# Altium schematic symbol library MuhammetLib.SchLib: 392 symbols (part 1 of 4)
Pins are listed as number, name and electrical type; pins without a type are passive.

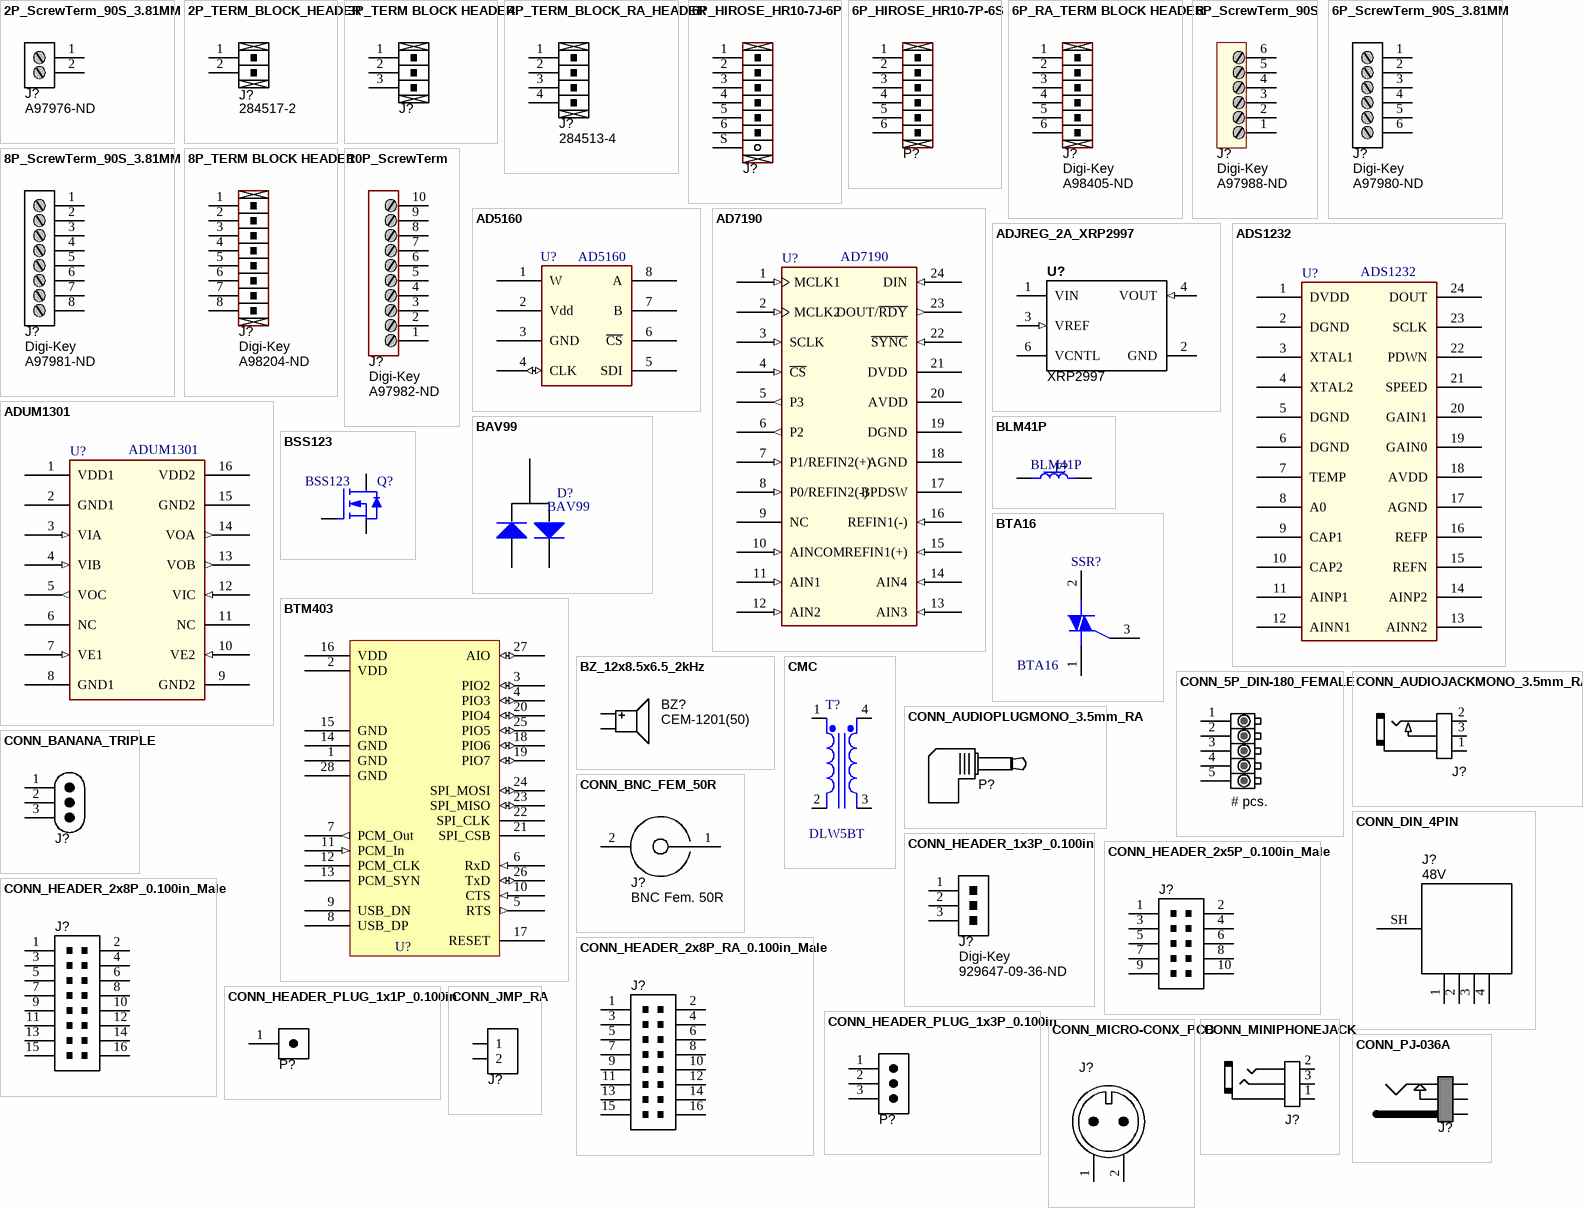
[diagram p0: symbols 2P_ScrewTerm_90S_3.81MM to CONN_PJ-036A]

## 2P_ScrewTerm_90S_3.81MM
designator J?, comment Supplier Part Number 1: A97976-ND  (hidden comment: Stackable ScrewTerm)
Terminal Block Screw Type THT 2-Position 3.81mm pitch; Manufacturer 1: Tyco Electronics; Manufacturer Part Number 1: 1776113-2; Value: 2 position; Pitch: 0.150" (3.81mm); Positions Per Level: 2; Package / Case: Side Entry; 3.81mm pitch; Category: Connectors Interconnects; Color: Black; Supplier 1: Digi-Key
footprint 2P_PCB_ScrewTerm_90S_3.81MM (TERM BLOCK 2POS SIDE ENT STACKABLE 3.81MM)
pins: 1, 2

## 2P_TERM_BLOCK_HEADER
designator J?  Manufacturer Part Number 1: 284517-2  (hidden comment: *)
Terminal Block THT 2-position header 3.81mm pitch; Manufacturer 1: TE Connectivity; Pitch: 0.150" (3.81mm); Voltage: 300V; Positions Per Level: 2; Mating Connector: 284507-2; Category: Connectors; Mounting Type: Through Hole; Terminal Block Type: Header, Male Pins, Right-angle, Shrouded (4 Side); Package / Case: Header; 3.81mm pitch; Supplier 1: Digi-Key; Supplier Part Number 1: A98410-ND
footprint 2P_PCB_TERM_BLOCK_HDR (TERM BLOCK HDR 2POS 3.81MM)
pins: 1, 2

## 3P_TERM BLOCK HEADER
designator J?  (value not drawn)
Terminal Block THT 3-Position header 3.81mm pitch; Manufacturer 1: TE Connectivity; Manufacturer Part Number 1: 284517-3; Pitch: 0.150" (3.81mm); Voltage: 300V; Mating Connector: 284507-3; Value: 3 position; Positions Per Level: 3; Category: Connectors; Mounting Type: Through Hole; Terminal Block Type: Header, Male Pins, Shrouded (4 Side); Package / Case: Side Entry; 3.81mm pitch; Supplier 1: Digi-Key; Supplier Part Number 1: A98411-ND; ComponentLink1URL: http://www.te.com/commerce/DocumentDelivery/DDEController?Action=srchrtrv&DocNm=284517&DocType=Customer+Drawing&DocLang=English; ComponentLink1Description: http://www.te.com/commerce/DocumentDelivery/DDEController?Action=srchrtrv&DocNm=284517&DocType=Customer+Drawing&DocLang=English
footprint 3P_PCB_TERM_BLOCK_HDR (TERM BLOCK HDR 3POS 3.81MM)
pins: 1, 2, 3

## 4P_TERM_BLOCK_RA_HEADER
designator J?  Manufacturer Part Number 1: 284513-4  (hidden comment: *)
Terminal Block THT Right Angle 4-Position Header 3.81mm pitch; Manufacturer 1: Tyco Electronics; Pitch: 0.150" (3.81mm); Voltage: 300V; Value: 4 position; Positions Per Level: 6; Category: Connectors; Mounting Type: Through Hole; Terminal Block Type: Header, Male Pins, Right-angle, Shrouded (4 Side); Package / Case: Side Entry; 3.81mm pitch; Supplier 1: Digi-Key; Supplier Part Number 1: A98403-ND
footprint 4P_PCB_TERM_BLOCK_HDR_RA (TERM BLOCK HDR 4POS 3.81MM RIGHT-ANGLE)
pins: 1, 2, 3, 4

## 6P_HIROSE_HR10-7J-6P
designator J?, comment HR10-7J-6P(73)  (value not drawn)
Connector 6 jack with pin insert; Manufacturer 1: Hirose Electric Co Ltd; Value: 6 position; Category: Connectors; Manufacturer Part Number 1: HR10-7J-6P(73); Supplier 1: Digi-Key; Supplier Part Number 1: HR1567-ND
footprint HDR1X6S (Connector; Header; 6 Position with shield term)
pins: 1, 2, 3, 4, 5, 6, S

## 6P_HIROSE_HR10-7P-6S
designator P?, comment HR10-7P-6S(73)  (value not drawn)
Connector 6 contact with socket insert; Manufacturer 1: Hirose Electric Co Ltd; Value: 6 position; Category: Connectors; Manufacturer Part Number 1: HR10-7P-6S(73); Supplier 1: Digi-Key; Supplier Part Number 1: HR1561-ND
footprint HDR1X6 (Connector; Header; 6 Position)
pins: 1, 2, 3, 4, 5, 6

## 6P_RA_TERM BLOCK HEADER
designator J?  Supplier 1: Digi-Key  Supplier Part Number 1: A98405-ND  (hidden comment: *)
Terminal Block THT Right Angle 6-Position Header 3.81mm pitch; Manufacturer 1: Tyco Electronics; Manufacturer Part Number 1: 284513-6; Pitch: 0.150" (3.81mm); Voltage: 300V; Mating Connector: 284507-6; Value: 6 position; Positions Per Level: 6; Category: Connectors; Mounting Type: Through Hole; Terminal Block Type: Header, Male Pins, Right-angle, Shrouded (4 Side); Package / Case: Side Entry; 3.81mm pitch
footprint 6P_PCB_TERM BLOCK HDR_RA (TERM BLOCK HDR 6POS 3.81MM RIGHT-ANGLE)
pins: 1, 2, 3, 4, 5, 6

## 6P_ScrewTerm_90S
designator J?  Supplier 1: Digi-Key  Supplier Part Number 1: A97988-ND  (hidden comment: *)
TERM BLOCK 6POS SIDE ENT STACKABLE 5.08MM; Manufacturer 1: Tyco Electronics; Manufacturer Part Number 1: 1776119-6; Current: 10A; Mating Orientation: Horizontal with Board; Pitch: 0.200" (5.08mm); Voltage: 300V; Wire Gauge: 15-17 AWG; Number of Levels: 1; Positions Per Level: 6; Category: Connectors Interconnects; Color: Black; Features: -; Mounting Type: Through Hole; Terminal Block Type: Wire to Board; Termination: Screw; ComponentLink1URL: http://documents.tycoelectronics.com/commerce/DocumentDelivery/DDEController?Action=srchrtrv&DocNm=1776119&DocType=CD&DocLang=EN; ComponentLink1Description: http://documents.tycoelectronics.com/commerce/DocumentDelivery/DDEController?Action=srchrtrv&DocNm=1776119&DocType=CD&DocLang=EN; Package / Case: Side Entry; 5.08mm pitch
footprint 6P_PCB_ScrewTerm90S (TERM BLOCK 6POS SIDE ENT STACKABLE 5.08MM)
pins: 1, 2, 3, 4, 5, 6

## 6P_ScrewTerm_90S_3.81MM
designator J?, comment Supplier 1: Digi-Key  Supplier Part Number 1: A97980-ND  (hidden comment: Stackable ScrewTerm)
Terminal Block, THT, 6-Position screwterm, 3.81mm pitch; Manufacturer 1: Tyco Electronics; Manufacturer Part Number 1: 1776113-6; Value: 6 position; Pitch: 0.150" (3.81mm); Positions Per Level: 6; Package / Case: Side Entry; 3.81mm pitch; Category: Connectors Interconnects; Color: Black
footprint 6P_PCB_ScrewTerm_90S_3.81MM (TERM BLOCK 6POS SIDE ENT STACKABLE 3.81MM)
pins: 1, 2, 3, 4, 5, 6

## 8P_ScrewTerm_90S_3.81MM
designator J?, comment Supplier 1: Digi-Key  Supplier Part Number 1: A97981-ND  (hidden comment: Stackable ScrewTerm)
Terminal Block, THT, 8-Position screwterm, 3.81mm pitch; Manufacturer 1: Tyco Electronics; Manufacturer Part Number 1: 1776113-8; Value: 8 position; Pitch: 0.150" (3.81mm); Positions Per Level: 8; Package / Case: Side Entry; 3.81mm pitch; Category: Connectors Interconnects; Color: Black
footprint 8P_PCB_ScrewTerm_90S_3.81MM (TERM BLOCK 8POS SIDE ENT STACKABLE 3.81MM)
pins: 1, 2, 3, 4, 5, 6, 7, 8

## 8P_TERM BLOCK HEADER
designator J?  Supplier 1: Digi-Key  Supplier Part Number 1: A98204-ND  (hidden comment: *)
Terminal Block, THT, 8-Position header, 3.81mm pitch; Manufacturer 1: Tyco Electronics; Manufacturer Part Number 1: 284517-8; Pitch: 0.150" (3.81mm); Voltage: 300V; Mating Connector: 284507-8; Value: 8 position; Positions Per Level: 8; Category: Connectors; Mounting Type: Through Hole; Terminal Block Type: Header, Male Pins, Shrouded (4 Side); Package / Case: Side Entry; 3.81mm pitch
footprint 8P_PCB_TERM BLOCK HDR (TERM BLOCK HDR 8POS 3.81MM)
pins: 1, 2, 3, 4, 5, 6, 7, 8

## 10P_ScrewTerm
designator J?  Supplier 1: Digi-Key  Supplier Part Number 1: A97982-ND  (hidden comment: *)
TERM BLOCK 10POS SIDE ENT 3.81MM; Manufacturer 1: Tyco Electronics; Manufacturer Part Number 1: 1-1776113-0; Current: 12A; Mating Orientation: Horizontal with Board; Pitch: 0.150" (3.81mm); Voltage: 150V; Wire Gauge: 16-28 AWG; Number of Levels: 1; Positions Per Level: 10; Category: Connectors; Color: Black; Features: -; Mounting Type: Through Hole; Terminal Block Type: Wire to Board; Termination: Screw; ComponentLink1URL: http://documents.tycoelectronics.com/commerce/DocumentDelivery/DDEController?Action=srchrtrv&DocNm=1776113&DocType=CD&DocLang=EN; ComponentLink1Description: http://documents.tycoelectronics.com/commerce/DocumentDelivery/DDEController?Action=srchrtrv&DocNm=1776113&DocType=CD&DocLang=EN; Package / Case: Side Entry; 3.81mm pitch
footprint 10P_PCB_ScrewTerm (TERM BLOCK 10POS SIDE ENT 3.81MM)
pins: 1, 2, 3, 4, 5, 6, 7, 8, 9, 10

## AD5160
designator U?
Analog Devices SPI Digital Potentiometer; ComponentLink2Description: SMD; Value: AD5160
footprint SOT23-8 (SOT 8-Leads, Body 2,90x1,60mm, Pitch 1,27mm, IPC Medium Density)
pins: 1 W, 2 Vdd (power), 3 GND (power), 4 CLK (io), 5 SDI (power), 6 ~{CS} (power), 7 B, 8 A

## AD7190
designator U?
24bit Sigma Delta ADC; Producer: Analog Devices; ComponentLink2Description: SMD; Value: AD7190
footprint TSOP24 (TSOP, 24-Leads, Body 7,9x4,5mm (max), Pitch 0,65mm, IPC Low Density)
pins: 1 MCLK1 (in), 2 MCLK2 (in), 3 SCLK (in), 4 ~{CS} (in), 5 P3 (out), 6 P2 (out), 7 P1/REFIN2(+) (in), 8 P0/REFIN2(-) (in), 9 NC, 10 AINCOM (in), 11 AIN1 (in), 12 AIN2 (in), 13 AIN3 (in), 14 AIN4 (in), 15 REFIN1(+) (in), 16 REFIN1(-) (in), 17 BPDSW (power), 18 AGND (power), 19 DGND (power), 20 AVDD (power), 21 DVDD (power), 22 ~{SYNC} (in), 23 DOUT/~{RDY} (out), 24 DIN (in)

## ADJREG_2A_XRP2997
designator U?, comment XRP2997
IC Adjustable Regulator 2A 8-SOIC-EP SMD; Manufacturer 1: Exar Corporation; Manufacturer Part Number 1: XRP2997IDBTR-F; Voltage Regulator Type: Switching Buck; Tolerance: ±20mV; Ratings: 5.5Vin Max; Value: 3.3V; 400mA; Voltage - Input: 1.1V to 5.5V; Voltage - Dropout (Typical): 0.075V @ 400mA; Current - Output: 2A (Max); Package / Case: 8-SOIC (0.154", 3.90mm Width) Exposed Pad; Voltage - Output: Adjustable; Supplier 1: Digi-Key; Supplier Part Number 1: 1016-1702-1-ND; Operating Temperature: -40°C ~ 85°C
footprint SOIC127P600X175-9N (SOIC, 8-Leads with thermal tab, Body 4.9x3.9mm, Pitch 1.27mm, IPC Medium Density)
pins: 1 VIN (power), 2 GND (power), 3 VREF (in), 4 VOUT (in), 6 VCNTL (power), 9 GND (power) hidden to GND

## ADS1232
designator U?
24bit Sigma Delta ADC; Producer: Texas Inst.; ComponentLink3Description: EICADS1232; ComponentLink2Description: SMD; Value: ADS1232
footprint TSOP24 (TSOP, 24-Leads, Body 7,9x4,5mm (max), Pitch 0,65mm, IPC Low Density)
pins: 1 DVDD (power), 2 DGND (power), 3 XTAL1, 4 XTAL2, 5 DGND (power), 6 DGND (power), 7 TEMP, 8 A0, 9 CAP1, 10 CAP2, 11 AINP1, 12 AINN1, 13 AINN2, 14 AINP2, 15 REFN, 16 REFP, 17 AGND (power), 18 AVDD (power), 19 GAIN0, 20 GAIN1, 21 SPEED, 22 PDWN, 23 SCLK, 24 DOUT

## ADUM1301
designator U?
Triple-Channel Digital Isolator; Producer: Analog Devices; ComponentLink3Description: EICADUM1301; ComponentLink2Description: SMD; Value: ADUM1301
footprint SOIC16W (SOIC, 16-Leads, Body 10.5x7.6mm (max), Pitch 1.27mm, IPC Medium Density)
pins: 1 VDD1 (power), 2 GND1 (power), 3 VIA (in), 4 VIB (in), 5 VOC (out), 6 NC, 7 VE1 (in), 8 GND1 (power), 9 GND2 (power), 10 VE2 (in), 11 NC, 12 VIC (in), 13 VOB (out), 14 VOA (out), 15 GND2 (power), 16 VDD2 (power)

## BAV99
designator D?
Small Signal Diode; Value: BAV99
footprint SOT23-3 (SOT23, 3-Leads, Body 3,0x2,5mm (max), Pitch 0,95mm, IPC Low Density)
pins: 1 A, 2 K, 3

## BLM41P
designator F?
Ferrite Bead, BLM41P; Producer: Murata; ComponentLink2Description: SMD; ComponentLink3Description: EEMCBLM41; Value: BLM41P
footprint F.1806 (Ferrite Bead, Body 4.5x1.6mm, IPC High Density)
pins: 1, 2

## BSS123
designator Q?
N Channel MOSFET; Producer: Diodes Inc.; ComponentLink2Description: SMD; ComponentLink3Description: ETRDMP2305U; Value: BSS123
footprint SOT23-3 (SOT23, 3-Leads, Body 3,0x2,5mm (max), Pitch 0,95mm, IPC Low Density)
pins: 1 G, 2 S, 3 D

## BTA16
designator SSR?
Triac; ComponentLink2Description: AX; ComponentLink3Description: ETACBTA16; Value: BTA16
footprint TO220 - yatik
pins: 1 M1, 2 M2, 3 G

## BTM403
designator U?
FlairComm Bluetooth Module; Producer: FlairComm; ComponentLink2Description: SMD; Value: BTM403
footprint BTM403 (Bluetooth Module)
pins: 1 GND (power) "Digital Ground", 2 VDD (power) "Digital Power", 3 PIO2 (io) "I/O", 4 PIO3 (io) "I/O", 5 RTS (out) "Uart RTS", 6 RxD (in) "Uart RxD", 7 PCM_Out (out) "Uart TxD", 8 USB_DP, 9 USB_DN, 10 CTS (in) "Uart CTS", 11 PCM_In (in) "PCM  IN", 12 PCM_CLK, 13 PCM_SYN, 14 GND (power) "Ground", 15 GND (power), 16 VDD (power), 17 RESET (oc), 18 PIO6 (io), 19 PIO7 (io), 20 PIO4 (io), 21 SPI_CSB, 22 SPI_CLK, 23 SPI_MISO (io), 24 SPI_MOSI (io), 25 PIO5 (io) "SPI_MOSI", 26 TxD (io) "I/O", 27 AIO (io) "Analog I/O", 28 GND (power) "Ground"

## BZ_12x8.5x6.5_2kHz
designator BZ?, comment Manufacturer Part Number 1: CEM-1201(50)  (hidden comment: Alternate part: 3100-932)
Speaker, Magnetic Transducer; Manufacturer 1: CUI Inc; Ratings: 2048 ±200 Hz; Package / Case: 6.5mm pitch; Material: Noryl SE1-J; Supplier 1: Digi-Key; Supplier Part Number 1: 102-1152-ND
footprint BUZZER_12.0X8.5MM
footprint STD_RAD_10PX1HLX22DX8.5 (Standard Radial, 10mm pin space, 1mm Hole, 22mm diametre, 8.5mm height)
footprint BUZZER_12.0X7MM
pins: 1 Positive, 2 Negative

## CMC
designator T?, comment DLW5BT
Common Mode Choke Coil; Producer: Murata; Value: DLW5BT
footprint CMC_2020 (Common Mode Choke 2020 size)
pins: 1, 2, 3, 4

## CONN_5P_DIN-180_FEMALE
designator P?, comment # pcs.  (mechanical)
Connector DIN-180 5-Pin Female Plug; Manufacturer 1: CUI Inc; Manufacturer Part Number 1: SD-50J; Mating Orientation: In-Line with Wire; Value: 5-Pin DIN-180; QtyOverride: 1; Category: Connectors Interconnects; Mounting Type: Free Hanging (In-Line); Supplier 1: Digi-Key; Supplier Part Number 1: CP-1150-ND
pins: 1, 2, 3, 4, 5

## CONN_AUDIOJACKMONO_3.5mm_RA_THD
designator J?, comment Mono phone jack  (value not drawn)
3.5mm Audio jack - Mono; Manufacturer 1: CUI Inc; Manufacturer Part Number 1: MJ-3502; Ratings: 1A; 12VDC; Material: Plastic, brass, silver; Package / Case: right-angle THD; Supplier 1: Digi-Key; Supplier Part Number 1: CP-3502MJ-ND
footprint CONN_AudioJackMono (CUI MJ-3502 3.5mm audio jack - mono)
pins: 1 Base, 2 TIP, 3 Middle

## CONN_AUDIOPLUGMONO_3.5mm_RA
designator P?, comment Mono phone plug  (value not drawn)  (mechanical)
3.5mm Audio plug - Mono; Manufacturer 1: Tensility International Corp; Manufacturer Part Number 1: CA-2206; 1st Connector: Phone Plug, 3.5mm (1/8"), Right Angle; 2nd Connector: Cable (Round); Shielding: Shielded; Package / Case: right-angle THD; Supplier 1: Digi-Key; Supplier Part Number 1: CP-2206-ND; Channels: Mono; Length: 6.0' (1.83m); Color: Black; ComponentLink1URL: http://www.tensility.com/pdffiles/CA-2206.pdf; ComponentLink1Description: http://www.tensility.com/pdffiles/CA-2206.pdf
pins: 1, 2

## CONN_BANANA_TRIPLE
designator J?, comment triple banana jack  (value not drawn)
Banana Jack triple panel mount; Manufacturer 1: Pomona Electronics; Manufacturer Part Number 1: 4601-0; Value: Single-row, 3 positions; Insulation: Mating End Insulated; Supplier 1: Digi-Key; Supplier Part Number 1: 501-1379-ND; Type: Banana Jack, Triple; Mounting Type: Panel Mount; Contact Finish: Tin; Contact Material: Brass; ComponentLink1URL: http://www.pomonaelectronics.com/pdf/d4601_1_01.pdf; ComponentLink1Description: http://www.pomonaelectronics.com/pdf/d4601_1_01.pdf
footprint BANANA_TRIPLE (Triple Banana jack, panel mount style)
pins: 1, 2, 3

## CONN_BNC_FEM_50R
designator J?, comment BNC Fem. 50R
Connector BNC 50 Ohm right-angle PCB mounted; Manufacturer 1: TE Connectivity; Manufacturer Part Number 1: 5413515-9; Impedance: 50 Ohm; Ratings: 9400pF; 1500V; Category: Connectors; Mounting Type: Through Hole; Supplier 1: Digi-Key; Supplier Part Number 1: A32418-ND; ComponentLink1URL: http://www.te.com/commerce/DocumentDelivery/DDEController?Action=srchrtrv&DocNm=5413515&DocType=Customer+Drawing&DocLang=English; ComponentLink1Description: TE Datasheet
footprint CONN_BNC_RA_PCB (BNC connector, right angle PCB-mounted)
pins: 1, 2

## CONN_DIN_4PIN
designator J?, comment 48V
Connector Power THT 4-PIN DIN Female PCB mount; Manufacturer 1: CUI Inc; Manufacturer Part Number 1: PD-40S; Mounting Type: Through Hole; Package / Case: PCB mount; Value: 4-Pin DIN; Supplier 1: Digi-Key; Supplier Part Number 1: CP-7240-ND
footprint CONN_PWR-DIN_4PIN_PD-40S (Power Connector, 4-pin DIN)
pins: 1 +V, 2 GND, 3 GND, 4 +V, SH

## CONN_HEADER_1x3P_0.100in
designator J?  Supplier 1: Digi-Key  Supplier Part Number 1: 929647-09-36-ND  (hidden comment: *)
Pin Header, THT, Single-row, 2.54mm pitch; Manufacturer 1: 3M; Manufacturer Part Number 1: 929647-09-36-I; Pitch: 0.100" (2.54mm); Value: Single-row, 3 positions; QtyOverride: 0.1; Category: Connectors; Mounting Type: Through Hole; Terminal Block Type: Header, Male Pins, Single; Package / Case: Pin header; 2.54mm pitch
footprint 1x3POS_HEADER (Connector Header, Single-row 3-position, 0.100" pitch)
pins: 1, 2, 3

## CONN_HEADER_2x5P_0.100in_Male
designator J?, comment shrouded box header  (value not drawn)
Header THD 10 POS Double-row 2.54mm pitch; Manufacturer 1: 3M; Manufacturer Part Number 1: D2510-6002-AR; Pitch: 0.100" (2.54mm); Value: Double-row, 10 positions; QtyOverride: 1; Connector Type: Header, Shrouded; Number of Positions: 10; Package / Case: Connector header; 2.54mm pitch; Contact Type: Male Pin; Number of Rows: 2; Row Spacing: 0.100" (2.54mm); Contact Mating Length: 0.243" (6.17mm); ComponentLink1URL: http://multimedia.3m.com/mws/mediawebserver?66666UuZjcFSLXTtm8T_oxMcEVuQEcuZgVs6EVs6E666666--; ComponentLink1Description: http://multimedia.3m.com/mws/mediawebserver?66666UuZjcFSLXTtm8T_oxMcEVuQEcuZgVs6EVs6E666666--; Supplier 1: Digi-Key; Supplier Part Number 1: MHC10E-ND
footprint 10P_PCB_HEADER_BRD_MNT (HEADER BRD MNT 10POS 2.54MM)
pins: 1, 2, 3, 4, 5, 6, 7, 8, 9, 10

## CONN_HEADER_2x8P_0.100in_Male
designator J?, comment shrouded box header  (value not drawn)
Header THD 16 POS Double-row 2.54mm pitch; Manufacturer 1: 3M; Manufacturer Part Number 1: D2516-6002-AR; Pitch: 0.100" (2.54mm); Value: Double-row, 16 positions; QtyOverride: 1; Connector Type: Header, Shrouded; Number of Positions: 16; Package / Case: Connector header; 2.54mm pitch; Contact Type: Male Pin; Number of Rows: 2; Row Spacing: 0.100" (2.54mm); Contact Mating Length: 0.243" (6.17mm); ComponentLink1URL: http://multimedia.3m.com/mws/mediawebserver?66666UuZjcFSLXTtm8T_oxMcEVuQEcuZgVs6EVs6E666666--; ComponentLink1Description: http://multimedia.3m.com/mws/mediawebserver?66666UuZjcFSLXTtm8T_oxMcEVuQEcuZgVs6EVs6E666666--; Supplier 1: Digi-Key; Supplier Part Number 1: MHC16E-ND
footprint 16P_PCB_HEADER_BRD_MNT (HEADER BRD MNT 16POS 2.54MM)
pins: 1, 2, 3, 4, 5, 6, 7, 8, 9, 10, 11, 12, 13, 14, 15, 16

## CONN_HEADER_2x8P_RA_0.100in_Male
designator J?, comment shrouded box header  (value not drawn)
Header THD 16 POS Right-angle Double-row 2.54mm pitch; Manufacturer 1: 3M; Manufacturer Part Number 1: D2516-5002-AR; Pitch: 0.100" (2.54mm); Value: Double-row, 16 positions; QtyOverride: 1; Connector Type: Header, Shrouded; Number of Positions: 16; Package / Case: Connector header; 2.54mm pitch; Supplier 1: Digi-Key; Supplier Part Number 1: MHE16E-ND; Contact Type: Male Pin; Number of Rows: 2; Row Spacing: 0.100" (2.54mm); Contact Mating Length: 0.243" (6.17mm); ComponentLink1URL: http://multimedia.3m.com/mws/mediawebserver?66666UuZjcFSLXTtm8T_oxMcEVuQEcuZgVs6EVs6E666666--; ComponentLink1Description: http://multimedia.3m.com/mws/mediawebserver?66666UuZjcFSLXTtm8T_oxMcEVuQEcuZgVs6EVs6E666666--
footprint 16P_PCB_HEADER_BRD_MNT_RA (HEADER BRD MNT R/A 16POS 2.54MM)
pins: 1, 2, 3, 4, 5, 6, 7, 8, 9, 10, 11, 12, 13, 14, 15, 16

## CONN_HEADER_PLUG_1x1P_0.100in
designator P?  (value not drawn)
Pin header for socket THT 1-Pos Low profile Single-row 2.54mm pitch; Manufacturer 1: Mill-Max Manufacturing Corp.; Manufacturer Part Number 1: 800-10-064-10-002000; Pitch: 0.100" (2.54mm); Value: 1x1 Pos.; QtyOverride: 0.02; Category: Connectors; Mounting Type: Through Hole; Package / Case: Socket header; 2.54mm pitch; Supplier 1: Digi-Key; Supplier Part Number 1: ED7564-ND
footprint 1x1POS_HEADER_LOWPROF (Connector Header, Single-row 1-position, 0.100" pitch)
pins: 1

## CONN_HEADER_PLUG_1x3P_0.100in
designator P?  (value not drawn)
Pin header for socket THT 3-Pos Low profile Single-row 2.54mm pitch; Manufacturer 1: Mill-Max Manufacturing Corp.; Manufacturer Part Number 1: 800-10-064-10-002000; Pitch: 0.100" (2.54mm); Value: 1x3 Pos.; QtyOverride: 0.05; Category: Connectors; Mounting Type: Through Hole; Package / Case: Socket header; 2.54mm pitch; Supplier 1: Digi-Key; Supplier Part Number 1: ED7564-ND
footprint 1x3POS_HEADER_LOWPROF (Connector Header, Single-row 3-position, 0.100" pitch)
pins: 1, 2, 3

## CONN_JMP_RA
designator J?, comment Connector, jumper  (value not drawn)
Connector Header 0.100in Right-angle single row; Manufacturer 1: Samtec Inc; Manufacturer Part Number 1: TSW-150-08-L-S-RA; QtyOverride: 0.05; Package / Case: Single-row pin header, male; Material: Plastic, metal; Supplier 1: Digi-Key; Supplier Part Number 1: SAM1043-50-ND
footprint JMP2_RA (2-pin RA jumper, 0.1" .025 pins)
pins: 1, 2

## CONN_MICRO-CONX_PCB
designator J?, comment Micro-Con-X sealed connector  (value not drawn)
Micro-Con-X Panel Mount Receptacle 2-pin PC Tail Contacts; Manufacturer 1: CONXALL; Manufacturer Part Number 1: 17292-2PG-300; Mounting Type: PCB with panel mount; Package / Case: PCB mount; Value: 2-pin
footprint CONN_JACK_MICRO-CONX (Micro-ConX 17292-2PG-300)
pins: 1, 2

## CONN_MINIPHONEJACK
designator J?, comment Stereo phone jack  (value not drawn)
Stereo phone jack mini; Manufacturer 1: CUI Inc; Manufacturer Part Number 1: SJ1-2513-SMT; Material: Plastic, metal; Supplier 1: Digi-Key; Supplier Part Number 1: CP1-2513SJCT-ND
footprint CONN_PhoneMiniStereo (CUI SJ1-2513-SMT 2.5mm stereo jack)
pins: 1 Base, 2 TIP, 3 Middle

## CONN_PJ-036A
designator J?, comment PJ-036A-SMT  (value not drawn)
Connector SMD power jack 2.0mm x 6.3mm; Manufacturer 1: CUI Inc; Material: Plastic, metal; Supplier 1: Digi-Key; Supplier Part Number 1: CP-036APJCT-ND; Manufacturer Part Number 1: PJ-036A-SMT
footprint CUI_PJ-036A-SMT
pins: 1, 2, 3

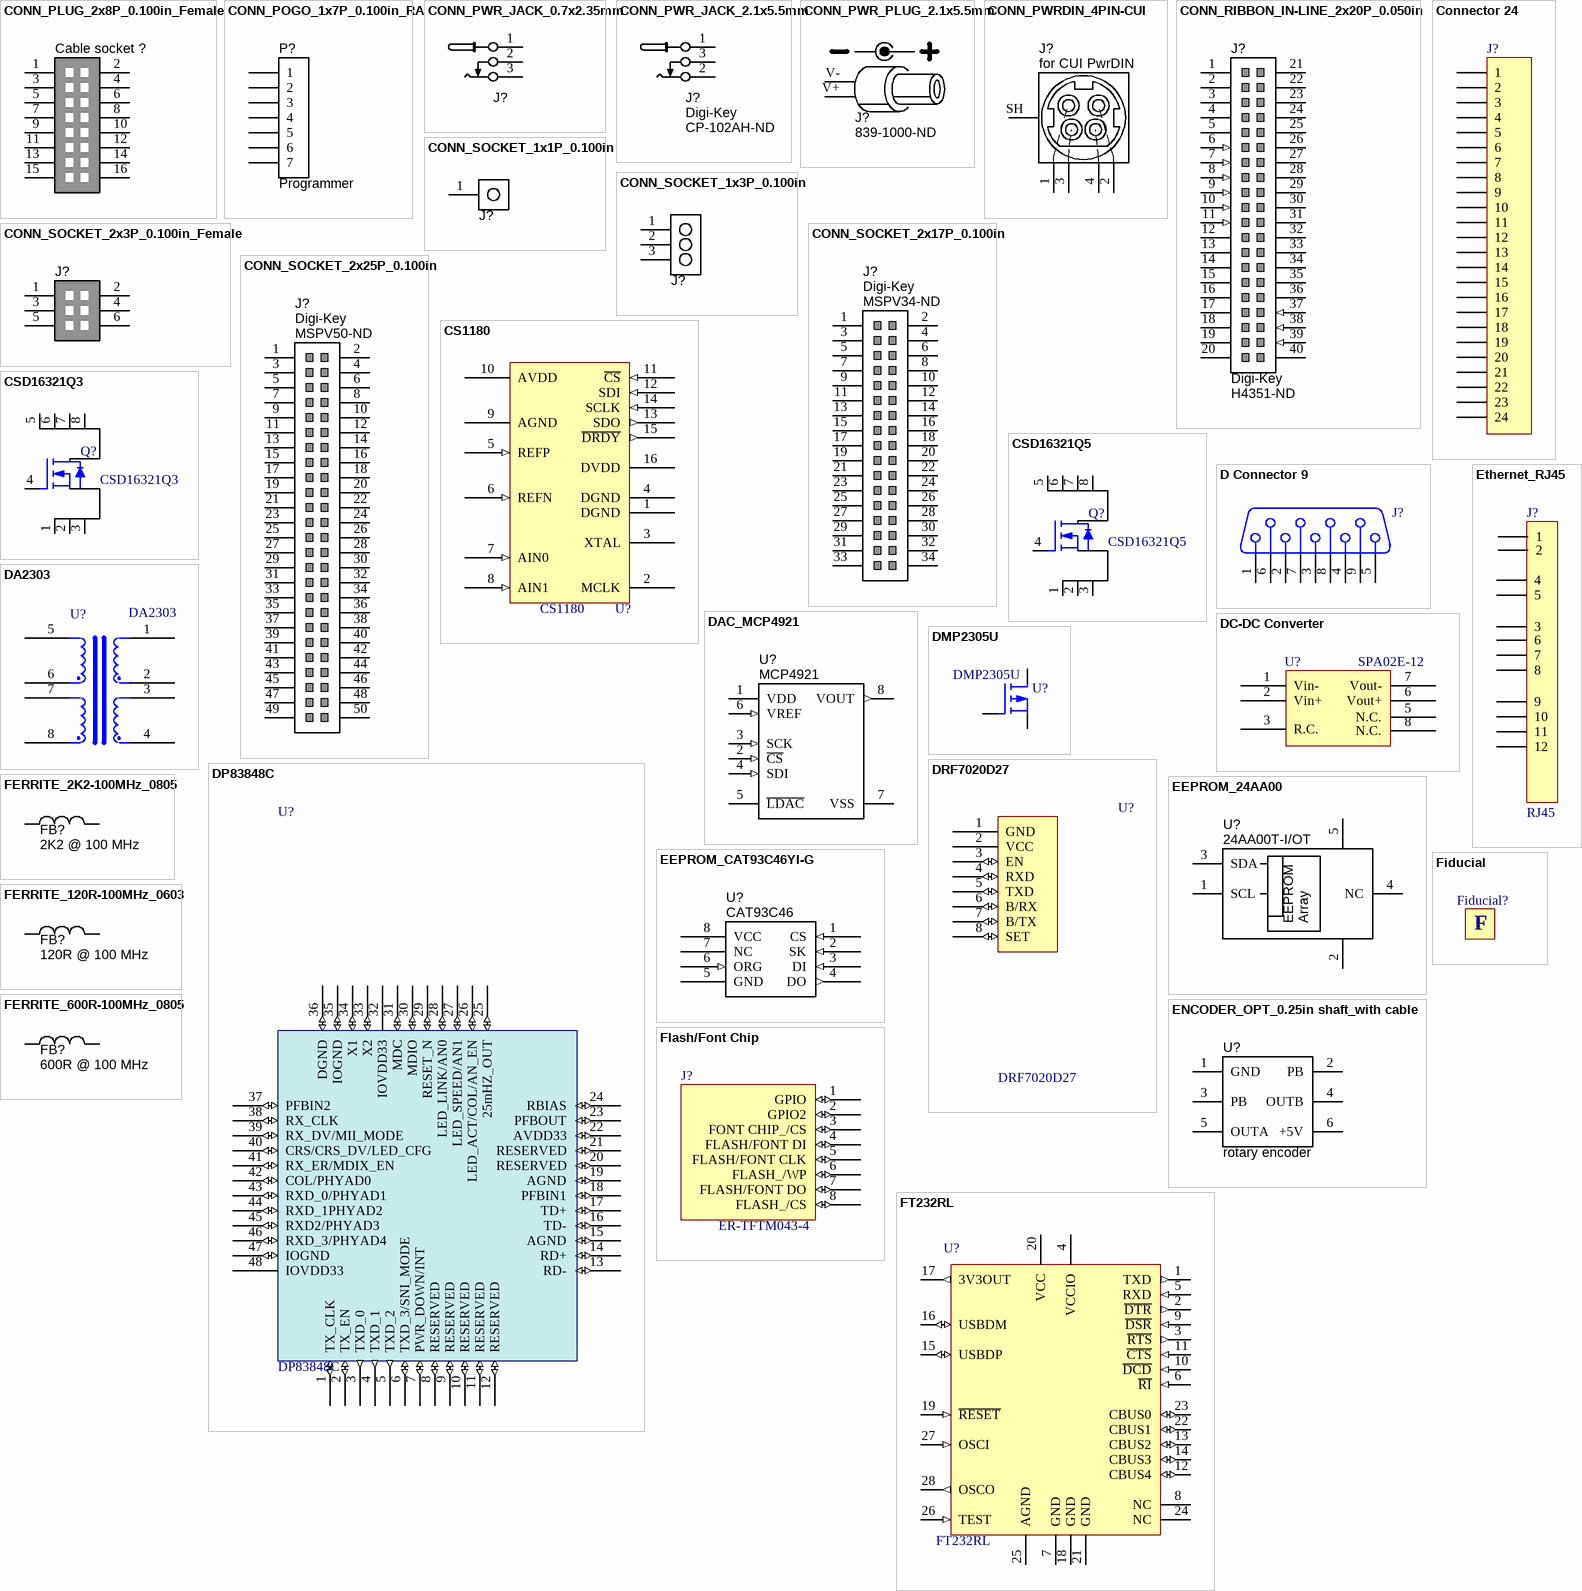
[diagram p1: symbols CONN_PLUG_2x8P_0.100in_Female to FT232RL]

## CONN_PLUG_2x8P_0.100in_Female
designator Cable socket ?, comment 16 POS IDC socket  (value not drawn)  (mechanical)
Ribbon cable socket 16 POS Double-row 2.54mm pitch; Manufacturer 1: 3M; Manufacturer Part Number 1: 3452-6616; Pitch: 0.100" (2.54mm); Value: Double-row, 16 positions; QtyOverride: 1; Number of Positions: 16; Package / Case: Cable socket; 2.54mm pitch; Contact Type: Female socket; Number of Rows: 2; Row Spacing: 0.100" (2.54mm); Supplier 1: Digi-Key; Supplier Part Number 1: 3M11948-ND
pins: 1, 2, 3, 4, 5, 6, 7, 8, 9, 10, 11, 12, 13, 14, 15, 16

## CONN_POGO_1x7P_0.100in_RA
designator P?, comment Programmer
Connector spring pins 7-position 2.54mm pitch right-angle; Manufacturer 1: Mill-Max Manufacturing Corp.; Manufacturer Part Number 1: 829-22-007-20-001101; Connector Type: Piston; Number of Contacts: 7; Pitch: 0.100" (2.54mm); Supplier 1: Digi-Key; Supplier Part Number 1: ED90508-ND; Mounting Type: Through Hole, Right Angle; Material: Copper Alloy; Contact Finish: Gold; ComponentLink1URL: http://www.mill-max.com/images/products/pdf/012.1N.PDF; ComponentLink1Description: http://www.mill-max.com/images/products/pdf/012.1N.PDF
footprint CONN POGO 7POS RA 0.100IN (Connector; Pogo pins; 7 Position)
pins: 1, 2, 3, 4, 5, 6, 7

## CONN_PWR_JACK_0.7x2.35mm
designator J?  (value not drawn)
Connector Power THT 0.7mm ID x 2.35mm OD; Manufacturer 1: Kobiconn; Manufacturer Part Number 1: 163-4307-E; Value: 0.7mm ID, 2.35mm OD; Category: Connectors; Mounting Type: Through Hole; Package / Case: PCB mount; HELPURL: http://www.mouser.com/ProductDetail/Kobiconn/163-4307-E/?qs=FrCfMICDGNKiKC02lNlE3g%3D%3D
footprint CONN_PWR_JACK_0.7x2.35mm (Power Connector, 0.7mm ID, 2.35mm OD)
pins: 1 POS, 2 NC, 3 NEG

## CONN_PWR_JACK_2.1x5.5mm
designator J?  Supplier 1: Digi-Key  Supplier Part Number 1: CP-102AH-ND  (hidden comment: *)
Power Connector, THT, 2.1mm ID, 5.5mm OD; Manufacturer 1: CUI Inc; Manufacturer Part Number 1: PJ-102AH; Category: Connectors; Mounting Type: Through Hole; Package / Case: PCB mount; Value: 2.1mm ID, 5.5mm OD
footprint CONN_PWR_JACK_2.1x5.5mm (Power Connector, 2.1mm ID, 5.5mm OD)
pins: 1, 2, 3

## CONN_PWR_PLUG_2.1x5.5mm
designator J?, comment Supplier Part Number 1: 839-1000-ND  (hidden comment: 2.1mm ID; 5.5mm OD; Locking Type)
Power Plug Locking Type 2.1mm ID x 5.5mm OD; Manufacturer 1: Tensility International Corp; Manufacturer Part Number 1: 10-00109; QtyOverride: 0.5; Ratings: 12VDC @ 5A; Category: Connectors; Mounting Type: Through Hole; Package / Case: Flying Leads; Value: 2.1mm ID; 5.5mm OD; Locking Type; Supplier 1: Digi-Key
footprint HDR_1x2_Power (Connector Header, Single-row 2-position, 0.200" pitch)
pins: V+, V-

## CONN_PWRDIN_4PIN-CUI
designator J?, comment for CUI PwrDIN
Connector Power THT 4-PIN DIN Female PCB mount; Manufacturer 1: CUI Inc; Manufacturer Part Number 1: PD-40S; Mounting Type: Through Hole; Package / Case: PCB mount; Value: 4-Pin DIN; Supplier 1: Digi-Key; Supplier Part Number 1: CP-7240-ND
footprint CONN_PWR-DIN_4PIN_PD-40S (Power Connector, 4-pin DIN)
pins: 1 +V, 2 +V, 3 GND, 4 GND, SH

## CONN_RIBBON_IN-LINE_2x20P_0.050in
designator J?, comment Supplier 1: Digi-Key  Supplier Part Number 1: H4351-ND  (hidden comment: Center-bar, 40 positions)  (mechanical)
Socket Ribbon Cable 40 POS 1.27mm pitch; Manufacturer 1: Hirose Electric Co Ltd; Manufacturer Part Number 1: FX2BA-40SA-1.27R; Pitch: 0.050" (1.27mm); Category: Connectors; Mounting Type: In-Line; Terminal Block Type: Socket, Female; Package / Case: Ribbon cable connector; 1.27mm pitch; Value: Center-bar, 40 positions
pins: 1 OUT2 HI (oc), 2 OUT2 GO (oc), 3 OUT2 LO (oc), 4 N.C. (oc), 5 GND OUT (power), 6 TIMING2 (in), 7 RESET2 (in), 8 ZERO2 (in), 9 P1 (in), 10 P2 (in), 11 P3 (in), 12 GND IN (power), 13 BIN 0 (oc), 14 BIN 1 (oc), 15 BIN 2 (oc), 16 BIN 3 (oc), 17 BIN 4 (oc), 18 BIN 5 (oc), 19 BIN 6 (oc), 20 BIN 7 (oc), 21 BIN 8 (oc), 22 BIN 9 (oc), 23 BIN 10 (oc), 24 BIN 11 (oc), 25 BIN 12 (oc), 26 BIN 13 (oc), 27 BIN 14 (oc), 28 BIN 15 (oc), 29 BIN 16 (oc), 30 BIN 17 (oc), 31 BIN 18 (oc), 32 BIN 19 (oc), 33 BIN 20 (oc), 34 STROBE (oc), 35 OUT1/OUT2 OUT (oc), 36 GND OUT (power), 37 OUT1/OUT2 SEL (in), 38 LASER OFF A (in), 39 LASER OFF B (in), 40 GND IN (power)

## CONN_SOCKET_1x1P_0.100in
designator J?  (value not drawn)
Socket header THT 1-Pos Low profile Single-row 2.54mm pitch; Manufacturer 1: Mill-Max Manufacturing Corp.; Manufacturer Part Number 1: 801-93-064-10-002000; Pitch: 0.100" (2.54mm); Value: 1x1 Pos.; QtyOverride: 0.02; Category: Connectors; Mounting Type: Through Hole; Package / Case: Socket header; 2.54mm pitch; Supplier 1: Digi-Key; Supplier Part Number 1: ED2764-ND
footprint 1x1POS_SOCKET_LOWPROF (Connector Socket, Single-row 1-position, 0.100" pitch)
pins: 1

## CONN_SOCKET_1x3P_0.100in
designator J?  (value not drawn)
Socket header THT 3-Pos Low profile Single-row 2.54mm pitch; Manufacturer 1: Mill-Max Manufacturing Corp.; Manufacturer Part Number 1: 801-93-064-10-002000; Pitch: 0.100" (2.54mm); Value: 1x3 Pos.; QtyOverride: 0.05; Category: Connectors; Mounting Type: Through Hole; Package / Case: Socket header; 2.54mm pitch; Supplier 1: Digi-Key; Supplier Part Number 1: ED2764-ND
footprint 1x3POS_SOCKET_LOWPROF (Connector Socket, Single-row 3-position, 0.100" pitch)
pins: 1, 2, 3

## CONN_SOCKET_2x3P_0.100in_Female
designator J?, comment micro-match socket  (value not drawn)
Socket THD 6 POS Double-row 2.54mm pitch; Manufacturer 1: TE Connectivity; Manufacturer Part Number 1: 7-215079-6; Pitch: 0.100" (2.54mm); Value: Double-row, 14 positions; QtyOverride: 1; Connector Type: Receptacle; Number of Positions: 6; Package / Case: Connector header; 2.54mm pitch; Contact Type: Female Socket; Number of Rows: 2; Row Spacing: 0.100" (2.54mm); Contact Mating Length: 0.243" (6.17mm); ComponentLink1URL: http://multimedia.3m.com/mws/mediawebserver?66666UuZjcFSLXTtm8T_oxMcEVuQEcuZgVs6EVs6E666666--; ComponentLink1Description: http://multimedia.3m.com/mws/mediawebserver?66666UuZjcFSLXTtm8T_oxMcEVuQEcuZgVs6EVs6E666666--; Supplier 1: Digi-Key; Supplier Part Number 1: A30729CT-ND
footprint 6P_PCB_SOCKET_BRD_MNT_MICRO-MATCH (SOCKET MICRO-MATCH BRD MNT 6POS 2.54MM)
pins: 1, 2, 3, 4, 5, 6

## CONN_SOCKET_2x17P_0.100in
designator J?  Supplier 1: Digi-Key  Supplier Part Number 1: MSPV34-ND  (hidden comment: *)
Socket, THT, 34 POS, Double-row, 2.54mm pitch; Manufacturer 1: 3M; Manufacturer Part Number 1: 8534-4500PL; Pitch: 0.100" (2.54mm); Value: Double-row, 34 positions; Category: Connectors; Mounting Type: Through Hole; Terminal Block Type: Socket, Female; Package / Case: Connector socket; 2.54mm pitch
footprint 34P_PCB_SOCKET_BRD_MNT (SOCKET BRD MNT 34POS 2.54MM)
pins: 1 AO GND, 2 AO 0, 3 AO GND, 4 AO 1, 5 AO GND, 6 AI GND, 7 NC, 8 AI GND, 9 AI SENSE, 10 AI GND, 11 AI 0, 12 AI 8, 13 AI GND, 14 AI 1, 15 AI 9, 16 AI GND, 17 AI 2, 18 AI 10, 19 AI GND, 20 AI 3, 21 AI 11, 22 AI GND, 23 AI 4, 24 AI 12, 25 AI GND, 26 AI 5, 27 AI 13, 28 AI GND, 29 AI 6, 30 AI 14, 31 AI GND, 32 AI 7, 33 AI 15, 34 AI GND

## CONN_SOCKET_2x25P_0.100in
designator J?  Supplier 1: Digi-Key  Supplier Part Number 1: MSPV50-ND  (hidden comment: *)
Socket, THT, 50 POS, Double-row, 2.54mm pitch; Manufacturer 1: 3M; Manufacturer Part Number 1: 8550-4500PL; Pitch: 0.100" (2.54mm); Value: Double-row, 50 positions; Category: Connectors; Mounting Type: Through Hole; Terminal Block Type: Socket, Female; Package / Case: Connector socket; 2.54mm pitch
footprint 50P_PCB_SOCKET_BRD_MNT (SOCKET BRD MNT 50POS 2.54MM)
pins: 1 P0.0, 2 D GND, 3 P0.1, 4 D GND, 5 P0.2, 6 D GND, 7 P0.3, 8 D GND, 9 P0.4, 10 D GND, 11 P0.5, 12 D GND, 13 P0.6, 14 D GND, 15 P0.7, 16 D GND, 17 PFI 0/P1.0, 18 D GND, 19 PFI 1/P1.1, 20 D GND, 21 PFI 2/P1.2, 22 D GND, 23 PFI 3/P1.3, 24 D GND, 25 PFI 4/P1.4, 26 D GND, 27 PFI 5/P1.5, 28 D GND, 29 PFI 6/P1.6, 30 D GND, 31 PFI 7/P1.7, 32 D GND, 33 PFI 8/P2.0, 34 D GND, 35 PFI 9/P2.1, 36 D GND, 37 PFI 10/P2.2, 38 D GND, 39 PFI 11/P2.3, 40 D GND, 41 PFI 12/P2.4, 42 D GND, 43 PFI 13/P2.5, 44 D GND, 45 PFI 14/P2.6, 46 D GND, 47 PFI 15/P2.7, 48 D GND, 49 +5 V, 50 +5 V

## Connector 24
designator J?  (value not drawn)
Connector, 24-Pin; Value: Connector 24; ComponentLink2Description: AX
footprint FPC-24 (24 way 0.5 pitch FPC Connector)
pins: 1, 2, 3, 4, 5, 6, 7, 8, 9, 10, 11, 12, 13, 14, 15, 16, 17, 18, 19, 20, 21, 22, 23, 24

## CS1180
designator U?
Analog to Digital Converter; Producer: ChipSea; ComponentLink2Description: SMD; ComponentLink3Description: EICCS1180SMD; Value: CS1180
footprint SSOP16 (SOP, 16-Leads, Body 6,4x5,5mm (max), Pitch 0,65mm, IPC Medium Density)
pins: 1 DGND (power) "Digital Ground", 2 MCLK, 3 XTAL, 4 DGND (power) "Digital Ground", 5 REFP (in) "Positive Referans", 6 REFN (in) "Negative Referans", 7 AIN0 (in) "Analog Input 0", 8 AIN1 (in) "Analog Input 1", 9 AGND (power) "Analog Ground", 10 AVDD (power) "Analog Power", 11 ~{CS} (in) "Chip Select", 12 SDI (in) "Serial Data Input", 13 SDO (out) "Serial Data Output", 14 SCLK (in) "Serial Clock", 15 ~{DRDY} (out) "Data Ready", 16 DVDD (power) "Digital Power"

## CSD16321Q3
designator Q?
N Channel MOSFET; Producer: Texas; ComponentLink2Description: SMD; ComponentLink3Description: CSD16321Q3; Value: CSD16321Q3
footprint SON 5 × 6-Q3
pins: 1 S, 2 S, 3 S, 4 G, 5 D, 6 D, 7 D, 8 D

## CSD16321Q5
designator Q?
N Channel MOSFET; Producer: Texas; ComponentLink2Description: SMD; ComponentLink3Description: CSD16321Q5; Value: CSD16321Q5
footprint SON 5 × 6-Q5
pins: 1 S, 2 S, 3 S, 4 G, 5 D, 6 D, 7 D, 8 D

## D Connector 9
designator J?
Receptacle Assembly, 9 Position, Right Angle; ComponentLink2Description: SMD
signal-integrity model Connector
footprint DSUB9_FEMALE (Desub; 9 Position, 2.5mm pin space)
footprint DSUB9_MALE (Desub; 9 Position, 2.5mm pin space)
footprint DSUB-9
pins: 1, 2, 3, 4, 5, 6, 7, 8, 9

## DA2303
designator U?
SMT Power Transformer; Producer: Coilcraft; ComponentLink2Description: SMD; Value: DA2303
footprint DA2303 (8-Leads, Body 10.0x8.2mm (max), Pitch 2.00mm, IPC Medium Density)
pins: 1, 2, 3, 4, 5, 6, 7, 8

## DAC_MCP4921
designator U?, comment MCP4921
IC DAC 12-bit SPI 8-SOIC; Manufacturer 1: Microchip Technology; Manufacturer Part Number 1: MCP4921-E/SN; Speed: 4.5 µs; Interface: Serial, SPI; Voltage - Supply: 1.8 V ~ 5.5 V; Number of Bits: 12; Number of Converters: 1; Operating Temperature: -40°C ~ 85°C; Package / Case: 8-SOIC (0.154", 3.90mm Width); Supplier 1: Digi-Key; Supplier Part Number 1: MCP4921-E/SN-ND
footprint SOIC127P600X175-8AN (SOIC, 8-Leads, Body 4.9x3.9mm, Pitch 1.27mm, IPC Medium Density)
pins: 1 VDD (power), 2 ~{CS} (in), 3 SCK (in), 4 SDI (in), 5 ~{LDAC} (power), 6 VREF (in), 7 VSS (power), 8 VOUT (out)

## DC-DC Converter
designator U?, comment SPA02E-12
Meanwell SPA02E-12 12V 2W DC-DC Çevirici; Value: SPA02E-12
footprint Meanwell SPA02E-12 (MEanwell SPA02E-12 12V Dc-Dc Converter)
pins: 1 Vin-, 2 Vin+, 3 R.C., 5 N.C., 6 Vout+, 7 Vout-, 8 N.C.

## DMP2305U
designator U?
P Channel MOSFET; Producer: Diodes Inc.; ComponentLink2Description: SMD; ComponentLink3Description: ETRDMP2305U; Value: DMP2305U
footprint SOT23-3 (SOT23, 3-Leads, Body 3,0x2,5mm (max), Pitch 0,95mm, IPC Low Density)
pins: 1 G, 2 S, 3 D

## DP83848C
designator U?
Single Port 10/100 Mb/s Ethernet Physical Layer Transceiver; Value: DP83848C; ComponentLink2Description: SMD; ComponentLink3Description: *
footprint LQFP48 (LQFP, 48-Leads, Body 9,1x9,1mm (max), Pitch 0,50mm, IPC Medium Density)
pins: 1 TX_CLK (io), 2 TX_EN (io), 3 TXD_0 (out), 4 TXD_1 (out), 5 TXD_2 (out), 6 TXD_3/SNI_MODE (io), 7 PWR_DOWN/INT (io), 8 RESERVED (io), 9 RESERVED (io), 10 RESERVED (io), 11 RESERVED (io), 12 RESERVED (io), 13 RD- (io), 14 RD+ (io), 15 AGND (io), 16 TD- (io), 17 TD+ (io), 18 PFBIN1 (io), 19 AGND (io), 20 RESERVED (io), 21 RESERVED (io), 22 AVDD33 (io), 23 PFBOUT (io), 24 RBIAS (io), 25 25mHZ_OUT (io), 26 LED_ACT/COL/AN_EN (io), 27 LED_SPEED/AN1 (io), 28 LED_LINK/AN0 (io), 29 RESET_N (io), 30 MDIO (io), 31 MDC (io), 32 IOVDD33 (power), 33 X2 (io), 34 X1 (io), 35 IOGND (io), 36 DGND (io), 37 PFBIN2 (io), 38 RX_CLK (io), 39 RX_DV/MII_MODE (io), 40 CRS/CRS_DV/LED_CFG (io), 41 RX_ER/MDIX_EN (io), 42 COL/PHYAD0 (io), 43 RXD_0/PHYAD1 (io), 44 RXD_1PHYAD2 (io), 45 RXD2/PHYAD3 (io), 46 RXD_3/PHYAD4 (io), 47 IOGND (io), 48 IOVDD33 (power)

## DRF7020D27
designator U?
DORJI DRF7020D27   27dBm ISM RF Transceiver Module; ComponentLink2Description: SMD; ComponentLink3Description: ???; Value: DRF7020D27
footprint DRF7020D27 (DORJI RF MODULE)
pins: 1 GND (power), 2 VCC (power), 3 EN (io), 4 RXD (io), 5 TXD (io), 6 B/RX (io), 7 B/TX (io), 8 SET (io)

## EEPROM_24AA00
designator U?, comment Manufacturer Part Number 1: 24AA00T-I/OT  (hidden comment: EEPROM)
EEPROM 128BIT 400KHZ SOT23-5; Manufacturer 1: Microchip Technology; Format - Memory: EEPROMs - Serial; Memory Size: 128 (16 x 8); Voltage - Supply: 1.7 V ~ 5.5 V; Supplier 1: Digi-Key; Supplier Part Number 1: 24AA00T-I/OTCT-ND; RoHS: RoHS Compliant; Operating Temperature: -40°C ~ 85°C; Package / Case: SOT-23-5; Value: EEPROM
footprint SOT23-5
pins: 1 SCL, 2 GND, 3 SDA, 4 NC, 5 VCC
text: Array

## EEPROM_CAT93C46YI-G
designator U?, comment CAT93C46
EEPROM 1KBIT 2MHZ 8-TSSOP; Manufacturer 1: ON Semiconductor; Manufacturer Part Number 1: CAT93C46YI-G; Format - Memory: EEPROMs - Serial; Memory Size: 1K (128 x 8 or 64 x 16); Interface: Microwire, 3-Wire Serial; Voltage - Supply: 1.8 V ~ 5.5 V; Rule: UNIONINDEX{}0[]SOLDERMASKEXPANSIONMODE{}None[]PASTEMASKEXPANSIONMODE{}None[]RULEKIND{}Clearance[]NETSCOPE{}DifferentNets[]LAYERKIND{}SameLayer[]NAME{}Schematic Clearance Constraint[]GAP{}9.5mil[]UNIT{}Imperial[]PcbType{}ProtelPcb; Supplier 1: Digi-Key; Supplier Part Number 1: CAT93C46YI-G-ND; Memory Type: EEPROM; Speed: 2MHz; Operating Temperature: -40°C ~ 85°C; Package / Case: 8-TSSOP; Supplier Device Package: 8-TSSOP; ComponentLink1URL: http://www.onsemi.com/pub_link/Collateral/CAT93C46-D.PDF; ComponentLink1Description: http://www.onsemi.com/pub_link/Collateral/CAT93C46-D.PDF
footprint TSSOP65P640X120-8N (TSSOP, 8 Leads, Body 3.1x4.5mm (max), Pitch 0.65mm, IPC Medium Density)
pins: 1 CS (in), 2 SK (in), 3 DI (in), 4 DO (out), 5 GND (power), 6 ORG (in), 7 NC, 8 VCC (power)

## ENCODER_OPT_0.25in shaft_with cable
designator U?, comment rotary encoder  (mechanical)
Encoder optical rotary panel mount no pushbutton; Manufacturer 1: CUI Inc; Manufacturer Part Number 1: C14D32N-B3; Ratings: 5VDC; Actuator Type: 1/4" Dia Flatted End; Detent: Yes; Output Type: Quadrature (Incremental); Pulses per Revolution: 16 or 32; Parameter Name: Cable with Connector; Package / Case: Panel Mount; Supplier 1: Digi-Key; Supplier Part Number 1: 102-1913-ND; Built in Switch: No; Encoder Type: Optical; Supplier 2: Digi-Key; Supplier Part Number 2: 102-1922-ND; Manufacturer 2: CUI Inc; Manufacturer Part Number 2: C14D16N-B3; Supplier 3: Digi-Key; Supplier Part Number 3: GH7534-ND; Manufacturer 3: Grayhill Inc; Manufacturer Part Number 3: 62AG22-L0-040C
pins: 1 GND, 2 PB, 3 PB, 4 OUTB, 5 OUTA, 6 +5V

## Ethernet_RJ45
designator J?  (value not drawn)
Ethernet_Connector; Value: Ethernet_RJ45; ComponentLink2Description: AX
footprint RJ45_Magnets (Chip Resistor, Body 3.1x1.6mm, IPC High Density)
pins: 1, 2, 3, 4, 5, 6, 7, 8, 9, 10, 11, 12
text: RJ45

## FERRITE_2K2-100MHz_0805
designator FB?, comment 2K2 @ 100 MHz
Ferrite bead 2.2K Ohm at 100 MHz 200mA 0805 SMD; Manufacturer 1: Laird-Signal Integrity Products; Manufacturer Part Number 1: HZ0805B222R-10; Ratings: 200 mA; 800 mOhm DC; Impedance @ Frequency: 600 Ohm @ 100MHz; DC Resistance (DCR): 800 mOhm Max; Filter Type: Differential Mode - Single; Size / Dimension: 0.063" L x 0.031" W (1.60mm x 0.80mm); Current Rating: 200mA; Package / Case: 0805 (2012 Metric); Height (Max): 0.043" (1.09mm); ComponentLink1URL: http://www.lairdtech.com/WorkArea/linkit.aspx?LinkIdentifier=id&ItemID=4879; ComponentLink1Description: http://www.lairdtech.com/WorkArea/linkit.aspx?LinkIdentifier=id&ItemID=4879; Supplier 1: Digi-Key; Supplier Part Number 1: 240-2562-1-ND; Mounting Type: Surface Mount; Value: 2K2 @ 100 MHz
footprint FBC2012N (Ferrite Bead Chip, Body 2.0x1.2mm, 0805, IPC Medium Density)
pins: 1, 2

## FERRITE_120R-100MHz_0603
designator FB?, comment 120R @ 100 MHz
Ferrite bead 120 Ohm at 100 MHz 2A 0603 SMD; Manufacturer 1: Murata Electronics North America; Manufacturer Part Number 1: BLM18PG121SN1D; Current: 900mA; DC Resistance (DCR): 172.9 mOhm Max; Frequency - Self Resonant: 23MHz; Frequency - Test: 100kHz; Impedance @ Frequency: 120 Ohm @ 100MHz; Filter Type: Differential Mode - Single; Number of Lines: 1; Ratings: 2 A; 50 mO DC; Current - Saturation: 900mA; Current - Temperature Rise: 900mA; Applications: Power Supplies; Package / Case: 1210 (3225 Metric); Operating Temperature: -40°C ~ 105°C; ComponentLink1URL: http://www.yuden.co.jp/ut/product/pdf/wound02_e.pdf; ComponentLink1Description: http://www.yuden.co.jp/ut/product/pdf/wound02_e.pdf; Supplier 1: Digi-Key; Supplier Part Number 1: 490-1037-1-ND; Current Rating: 2A; Mounting Type: Surface Mount; Height (Max): 0.037" (0.95mm); Size / Dimension: 0.063" L x 0.031" W (1.60mm x 0.80mm); ComponentLink2URL: http://search.murata.co.jp/Ceramy/image/img/PDF/ENG/L0110S0100BLM18P.pdf; ComponentLink2Description: http://search.murata.co.jp/Ceramy/image/img/PDF/ENG/L0110S0100BLM18P.pdf; Value: 120R @ 100 MHz
footprint INDC1608N (Chip bead, Body 1.6x0.8mm, 0603, IPC Medium Density)
pins: 1, 2

## FERRITE_600R-100MHz_0805
designator FB?, comment 600R @ 100 MHz
Ferrite bead 600 Ohm at 100 MHz 200mA 0805 SMD; Manufacturer 1: Murata Electronics North America; Manufacturer Part Number 1: BLM21AG601SN1D; Ratings: 200 mA; 300 mOhm DC; Impedance @ Frequency: 600 Ohm @ 100MHz; DC Resistance (DCR): 300 mOhm Max; Filter Type: Differential Mode - Single; Size / Dimension: 0.063" L x 0.031" W (1.60mm x 0.80mm); Supplier 1: Digi-Key; Supplier Part Number 1: 490-1040-1-ND; Current Rating: 200mA; Package / Case: 0805 (2012 Metric); Height (Max): 0.041" (1.05mm); ComponentLink1URL: http://search.murata.co.jp/Ceramy/image/img/PDF/ENG/L0110S0100BLM21A.pdf; ComponentLink1Description: http://search.murata.co.jp/Ceramy/image/img/PDF/ENG/L0110S0100BLM21A.pdf; Value: 600R @ 100 MHz
footprint FBC2012N (Ferrite Bead Chip, Body 2.0x1.2mm, 0805, IPC Medium Density)
pins: 1, 2

## Fiducial
designator Fiducial?, comment Fidicual  (value not drawn)  (no BOM)
Fiducial; Value: Fidicual
footprint Fiducial (Electrolitic Radial Capacitor, 5mm pin space, 0.8mm Hole, 10.1mm diametre, 15.2 height)
text: F

## Flash/Font Chip
designator J?, comment ER-TFTM043-4
Value: ER-TFTM043-4
footprint FPC-8 (8 way 1mm pitch FPC Connector)
pins: 1 GPIO (io), 2 GPIO2 (io), 3 FONT CHIP_/CS (io), 4 FLASH/FONT DI (io), 5 FLASH/FONT CLK (io), 6 FLASH_/WP (io), 7 FLASH/FONT DO (io), 8 FLASH_/CS (io)

## FT232RL
designator U?
USB UART Asynchronous Serial Data Transfer Chip, SSOP-28; Producer: FTDI; Value: FT232RL
footprint SSOP.28_MD (SSOP, 28-Leads, Body 10,5x5,6mm (max), Pitch 0,65mm, IPC Medium Density)
footprint SSOP.28_LD (SOP, 28-Leads, Body 10.5x5.6mm (max), Pitch 0.65mm, IPC Low Density)
pins: 1 TXD (out), 2 ~{DTR} (out), 3 ~{RTS} (out), 4 VCCIO (power), 5 RXD (in), 6 ~{RI} (in), 7 GND (power), 8 NC, 9 ~{DSR} (in), 10 ~{DCD} (in), 11 ~{CTS} (in), 12 CBUS4 (io), 13 CBUS2 (io), 14 CBUS3 (io), 15 USBDP (io), 16 USBDM (io), 17 3V3OUT (out), 18 GND (power), 19 ~{RESET} (in), 20 VCC (power), 21 GND (power), 22 CBUS1 (io), 23 CBUS0 (io), 24 NC, 25 AGND (power), 26 TEST (in), 27 OSCI (in), 28 OSCO (out)

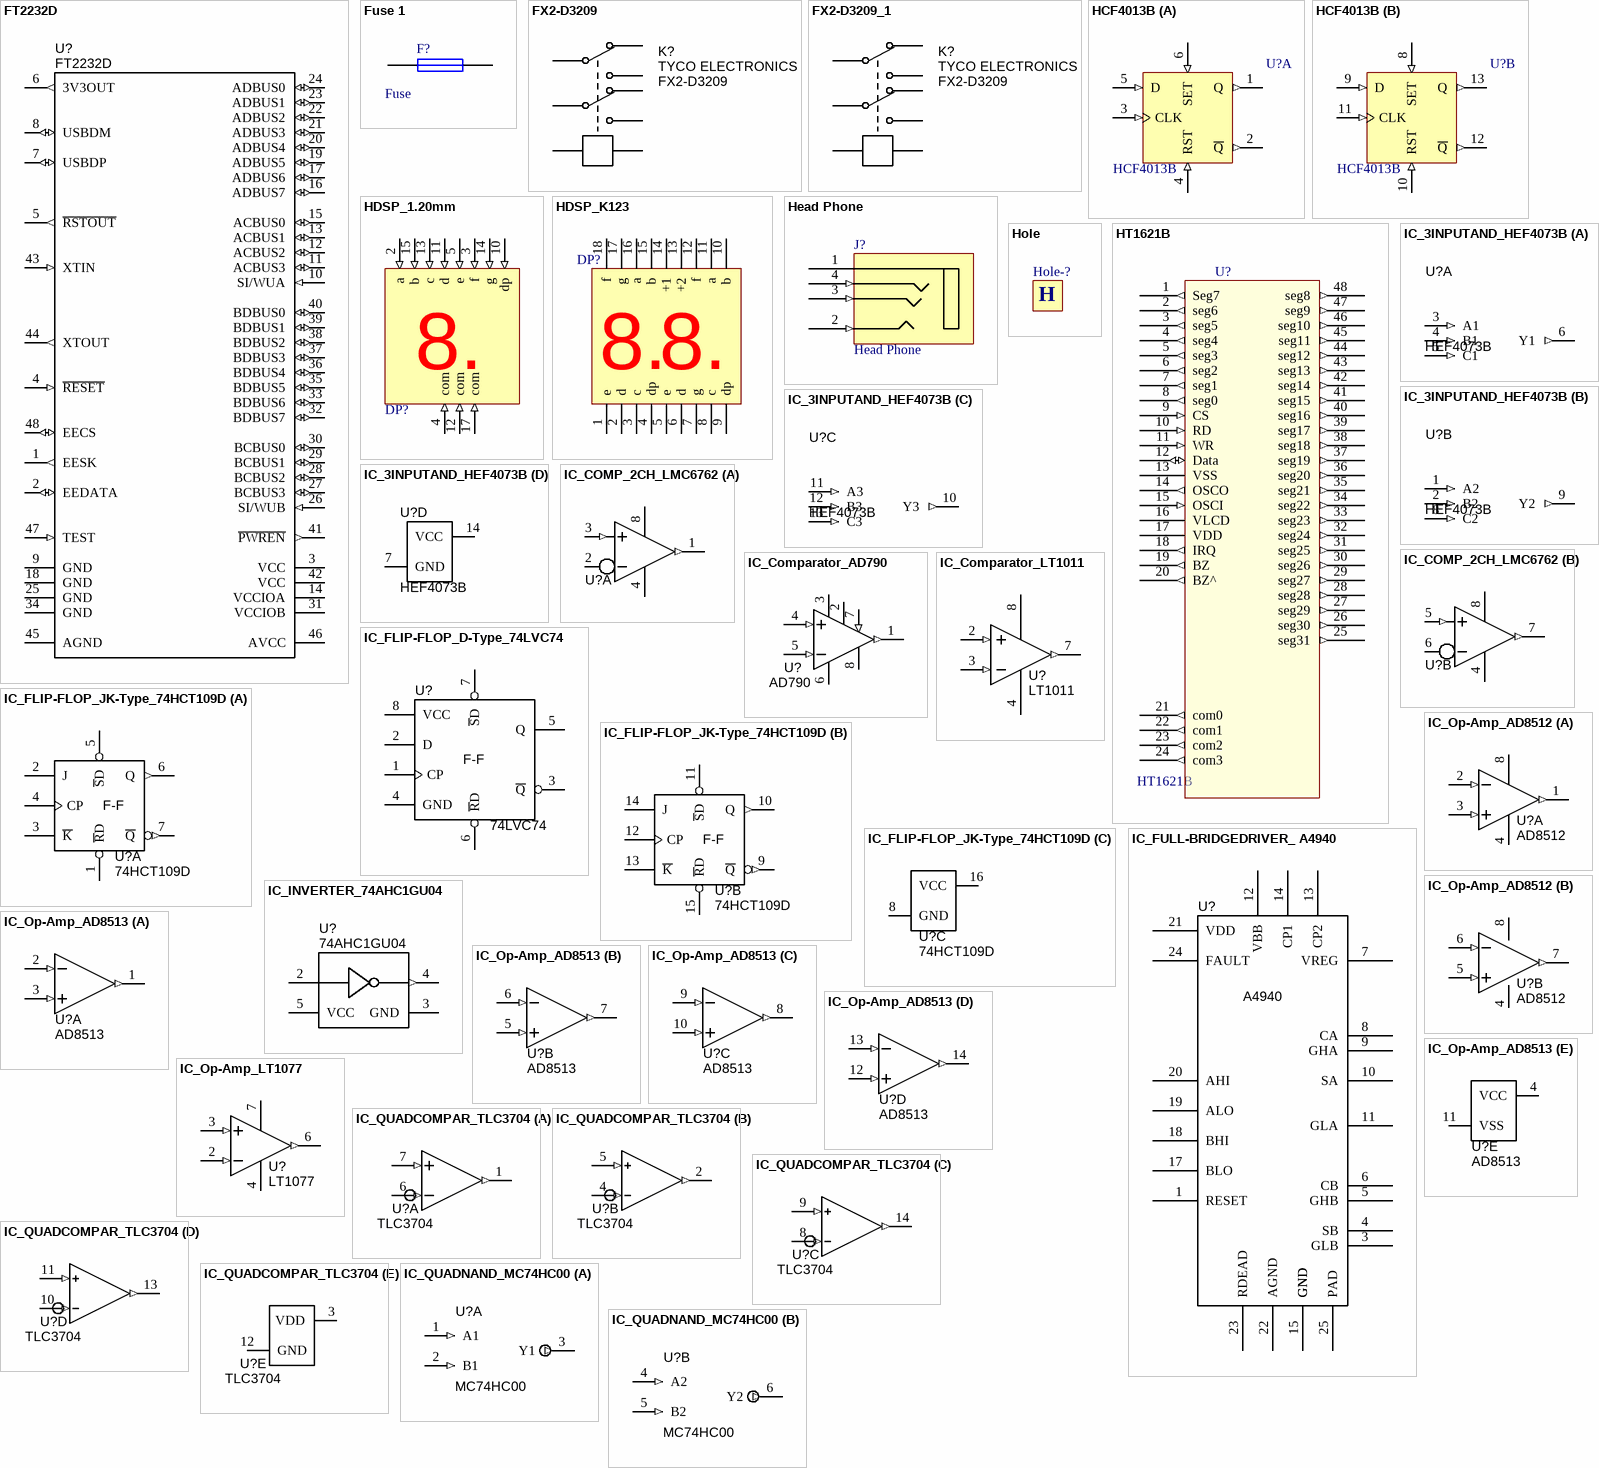
[diagram p2: symbols FT2232D to IC_QUADNAND_MC74HC00]

## FT2232D
designator U?
Dual USB UART/FIFO Chip, LQFP-48; Manufacturer 1: FTDI, Future Technology Devices International Ltd; Manufacturer Part Number 1: FT2232D-REEL; Protocol: RS-232, RS-422, RS-485; Voltage - Supply: 4.35 V ~ 5.25 V; Rule: UNIONINDEX{}0[]SOLDERMASKEXPANSIONMODE{}None[]PASTEMASKEXPANSIONMODE{}None[]RULEKIND{}Clearance[]NETSCOPE{}DifferentNets[]LAYERKIND{}SameLayer[]NAME{}Schematic Clearance Constraint[]GAP{}7.874mil[]UNIT{}Metric[]PcbType{}ProtelPcb; DatasheetVersion: ver 2.05, Apr-2011; ComponentLink1Description: Manufacturer URL; ComponentLink1URL: http://www.ftdichip.com/; ComponentLink2Description: Datasheet; ComponentLink2URL: http://www.ftdichip.com/Support/Documents/DataSheets/ICs/DS_FT2232D.pdf; Supplier 1: Digi-Key; Supplier Part Number 1: 768-1010-1-ND; Package / Case: 48-LQFP
footprint LQFP-48_N (Thin QFP, 48-Leads, Body 7x7mm, Pitch 0.5mm, IPC Medium Density)
pins: 1 EESK (out), 2 EEDATA (io), 3 VCC (power), 4 ~{RESET} (in), 5 ~{RSTOUT} (out), 6 3V3OUT (out), 7 USBDP (io), 8 USBDM (io), 9 GND (power), 10 SI/WUA (in), 11 ACBUS3 (io), 12 ACBUS2 (io), 13 ACBUS1 (io), 14 VCCIOA (power), 15 ACBUS0 (io), 16 ADBUS7 (io), 17 ADBUS6 (io), 18 GND (power), 19 ADBUS5 (io), 20 ADBUS4 (io), 21 ADBUS3 (io), 22 ADBUS2 (io), 23 ADBUS1 (io), 24 ADBUS0 (io), 25 GND (power), 26 SI/WUB (in), 27 BCBUS3 (io), 28 BCBUS2 (io), 29 BCBUS1 (io), 30 BCBUS0 (io), 31 VCCIOB (power), 32 BDBUS7 (io), 33 BDBUS6 (io), 34 GND (power), 35 BDBUS5 (io), 36 BDBUS4 (io), 37 BDBUS3 (io), 38 BDBUS2 (io), 39 BDBUS1 (io), 40 BDBUS0 (io), 41 ~{PWREN} (out), 42 VCC (power), 43 XTIN (in), 44 XTOUT (out), 45 AGND (power), 46 AVCC (power), 47 TEST (in), 48 EECS (io)

## Fuse 1
designator F?, comment Fuse
Published: 8-Jun-2000; LatestRevisionDate: 17-Jul-2002; LatestRevisionNote: Re-released for DXP Platform.; PackageReference: PIN-W2/E2.8; Publisher: Altium Limited; PackageDescription: Thru-Hole; 2 Leads; ComponentLink2Description: SMD; ComponentLink3Description: ESIMF110/16-2; Value: Fuse
footprint PIN-W2/E2.8 (Thru-Hole; 2 Leads)
simulation model FUSE (Spice Subcircuit)
footprint L_1812 (SMD fuse)
pins: 1, 2

## FX2-D3209
designator K?  Manufacturer 1: TYCO ELECTRONICS  Manufacturer Part Number 1: FX2-D3209  (hidden comment: *)
TYCO ELECTRONICS - FX2-D3209 - RELAY, PCB, DPCO, 5VDC; Voltage, Coil DC Nom: 5; Coil Resistance: 178; No. of Poles: 2; Contact Configuration: DPDT; Voltage, Contact AC Max: 250; Voltage, Contact DC Max: 220; Supplier 1: Newark; Supplier Part Number 1: 97K0381; Category: Switches & Relays; Series: FX2; Max Contact Current AC: 2; ComponentLink1URL: http://www.farnell.com/datasheets/68394.pdf; ComponentLink1Description: http://www.farnell.com/datasheets/68394.pdf
footprint Relay_Tyco_FX2 (Tyco FX2 DPDT 5VDC Relay)
pins: 1, 2, 3, 4, 5, 6, 7, 8

## FX2-D3209_1
designator K?  Manufacturer 1: TYCO ELECTRONICS  Manufacturer Part Number 1: FX2-D3209  (hidden comment: *)
TYCO ELECTRONICS - FX2-D3209 - RELAY, PCB, DPCO, 5VDC; Voltage, Coil DC Nom: 5; Coil Resistance: 178; No. of Poles: 2; Contact Configuration: DPDT; Voltage, Contact AC Max: 250; Voltage, Contact DC Max: 220; Supplier 1: Newark; Supplier Part Number 1: 97K0381; Category: Switches & Relays; Series: FX2; Max Contact Current AC: 2; ComponentLink1URL: http://www.farnell.com/datasheets/68394.pdf; ComponentLink1Description: http://www.farnell.com/datasheets/68394.pdf
footprint Relay_Tyco_FX2 (Tyco FX2 DPDT 5VDC Relay)
pins: 1, 2, 3, 4, 5, 6, 7, 8

## HCF4013B
designator U?  value HCF4013B
Dual D-Type Flip-Flop; Producer: ST; ComponentLink2Description: SMD; ComponentLink3Description: EICHCF4013B
3D model SO14 (PCB3D Model)
simulation model HCF4013 (SIMCODE)
footprint SOIC14 (SOIC, 14-Leads, Body 8,8x4,0mm (max), Pitch 1,27mm, IPC Low Density)
pins on every part: 7 GND (power) hidden to GND, 14 VDD (power) hidden to VDD
part A pins: 1 Q (out), 2 ~{Q} (out), 3 CLK (in), 4 RST (in), 5 D (in), 6 SET (in)
part B pins: 8 SET (in), 9 D (in), 10 RST (in), 11 CLK (in), 12 ~{Q} (out), 13 Q (out)

## HDSP_1.20mm
designator DP?, comment Single Seven Segment  (value not drawn)
Tekli Seven Segment, 20mmx28mm; Value: Single Seven Segment; ComponentLink2Description: AX; ComponentLink3Description: EDSPMEB
footprint DP_20mm
pins: 2 a (in), 3 f (in), 4 com (in), 5 e (in), 10 dp (in), 11 d (in), 12 com (in), 13 c (in), 14 g (in), 15 b (in), 17 com (in)
text: 8; .

## HDSP_K123
designator DP?, comment Dual Seven Segment  (value not drawn)
2 li Seven Segment, 25mmx19mm; Value: Dual Seven Segment; ComponentLink2Description: AX; ComponentLink3Description: EDSPMEB
footprint HDSP-K123_LEDTECH
pins: 1 e, 2 d, 3 c, 4 dp, 5 e, 6 d, 7 g, 8 c, 9 dp, 10 b, 11 a, 12 f, 13 +2, 14 +1, 15 b, 16 a, 17 g, 18 f
text: .

## Head Phone
designator J?
3.5 mm Kulaklık Jackı
pins: 1 (power), 2 (in), 3 (in), 4 (in)

## Hole
designator Hole-?  (value not drawn)  (no BOM)
Value: Hole
signal-integrity model Connector
footprint HOLE_3HL_7D (Hole, 3mm hole, 7mm total dimention with copper)
footprint HOLE_4HL_8D (Hole, 3mm hole, 7mm total dimention with copper)
text: H

## HT1621B
designator U?
LCD Driver; ComponentLink2Description: SMD; ComponentLink3Description: EICHT1621BSMD; Value: HT1621B
footprint SSOP48 (SOP, 48-Leads, Body 16,2x7,6mm (max), Pitch 0,63mm, IPC Medium Density)
pins: 1 Seg7 (out) "SEG7", 2 seg6 (out), 3 seg5 (out), 4 seg4 (out), 5 seg3 (out), 6 seg2 (out), 7 seg1 (out), 8 seg0 (out), 9 CS (in), 10 RD (in), 11 WR (in), 12 Data (io), 13 VSS (power), 14 OSCO (out), 15 OSCI (in), 16 VLCD (power), 17 VDD (power), 18 IRQ (out), 19 BZ (out), 20 BZ^ (out), 21 com0 (out), 22 com1 (out), 23 com2 (out), 24 com3 (out), 25 seg31 (out), 26 seg30 (out), 27 seg29 (out), 28 seg28 (out), 29 seg27 (out), 30 seg26 (out), 31 seg25 (out), 32 seg24 (out), 33 seg23 (out), 34 seg22 (out), 35 seg21 (out), 36 seg20 (out), 37 seg19 (out), 38 seg18 (out), 39 seg17 (out), 40 seg16 (out), 41 seg15 (out), 42 seg14 (out), 43 seg13 (out), 44 seg12 (out), 45 seg11 (out), 46 seg10 (out), 47 seg9 (out), 48 seg8 (out)

## IC_3INPUTAND_HEF4073B
designator U?, comment HEF4073B
IC SMD Triple 3-input AND SOIC-14; Manufacturer 1: NXP Semiconductors; Manufacturer Part Number 1: HEF4073BT,653; Logic Type: AND gate; Current - Output High, Low: 3mA, 3mA; Voltage - Supply: 3 V ~ 15 V; Ratings: -40°C ~ 85°C; Mounting Type: Surface Mount; Package / Case: 14-SOIC (0.154", 3.90mm Width); Supplier 1: Digi-Key; Supplier Part Number 1: 568-7700-1-ND; ComponentLink1URL: http://www.nxp.com/documents/data_sheet/HEF4073B_CNV.pdf; ComponentLink1Description: HEF4073B datasheet
footprint SOIC127P600X175-14AN (SOIC, 1.27mm pitch, 14 pin, Body 8.65x3.90mm)
part A pins: 3 A1 (in), 4 B1 (in), 5 C1 (in), 6 Y1 (out)
part B pins: 1 A2 (in), 2 B2 (in), 8 C2 (in), 9 Y2 (out)
part C pins: 10 Y3 (out), 11 A3 (in), 12 B3 (in), 13 C3 (in)
part D pins: 7 GND (power), 14 VCC (power)

## IC_COMP_2CH_LMC6762
designator U?, comment LMC6762  (value not drawn)
IC Dual Rail-Rail PP Comparator SOIC-8 SMD; Manufacturer 1: National Semiconductor; Manufacturer Part Number 1: LMC6762BIM/NOPB; Voltage - Supply: 2.7 V ~ 16 V, ±1.35 V ~ 8 V; Number of Elements: 2; Output Type: Push-Pull, Rail-to-Rail; Package / Case: 8-SOIC (0.154", 3.90mm Width); Supplier 1: Digi-Key; Supplier Part Number 1: LMC6762BIM-ND; ComponentLink1URL: http://www.ti.com/lit/ds/symlink/lmc6762.pdf; ComponentLink1Description: http://www.ti.com/lit/ds/symlink/lmc6762.pdf
footprint SOIC127P600X175-8AN (SOIC, 8-Leads, Body 4.9x3.9mm, Pitch 1.27mm, IPC Medium Density)
pins on every part: 4 V- (power), 8 V+ (power)
part A pins: 1 OUT A (out), 2 IN A- (in), 3 IN A+ (in)
part B pins: 5 IN B+ (in), 6 IN B- (in), 7 OUT B (out)

## IC_Comparator_AD790
designator U?, comment AD790
IC SMD Voltage Comparator SOIC-8; Manufacturer 1: Analog Devices Inc; Manufacturer Part Number 1: AD790JRZ; Voltage - Supply: 2.7 V ~ 16 V, ±1.35 V ~ 8 V; Package / Case: 8-SOIC (0.154", 3.90mm Width); Supplier 1: Digi-Key; Supplier Part Number 1: AD790JRZ-ND
footprint SOIC127P600X175-8AN (SOIC, 8-Leads, Body 4.9x3.9mm, Pitch 1.27mm, IPC Medium Density)
pins: 1 OUT (out), 2 Vlogic (power), 3 +Vs (power), 4 +IN (in), 5 -IN (in), 6 -Vs (power), 7 ~{Latch} (in), 8 GND (power)

## IC_Comparator_LT1011
designator U?, comment LT1011
IC SMD Voltage Comparator SOIC-8; Manufacturer 1: Linear Technology; Manufacturer Part Number 1: LT1011CS8#PBF; Voltage - Supply: 2.7 V ~ 16 V, ±1.35 V ~ 8 V; Supplier 1: Digi-Key; Supplier Part Number 1: LT1011CS8#PBF-ND; Package / Case: 8-SOIC (0.154", 3.90mm Width)
footprint SOIC127P600X175-8AN (SOIC, 8-Leads, Body 4.9x3.9mm, Pitch 1.27mm, IPC Medium Density)
pins: 2 IN+ (in), 3 IN- (in), 4 V- (power), 7 OUT (out), 8 V+ (power)